# Altium footprint library HFFP10-HH.PcbLib: 1 footprints
Each footprint in its own frame and in the unit in brackets; x right, y up, seen from the top. Pads: shape width x height; smd on the part's side, far side on the other; paste and mask are expansions set on the pad; w line width, h text height; cw(c..) or ccw(c..) is an arc to the next point about the centre after c.
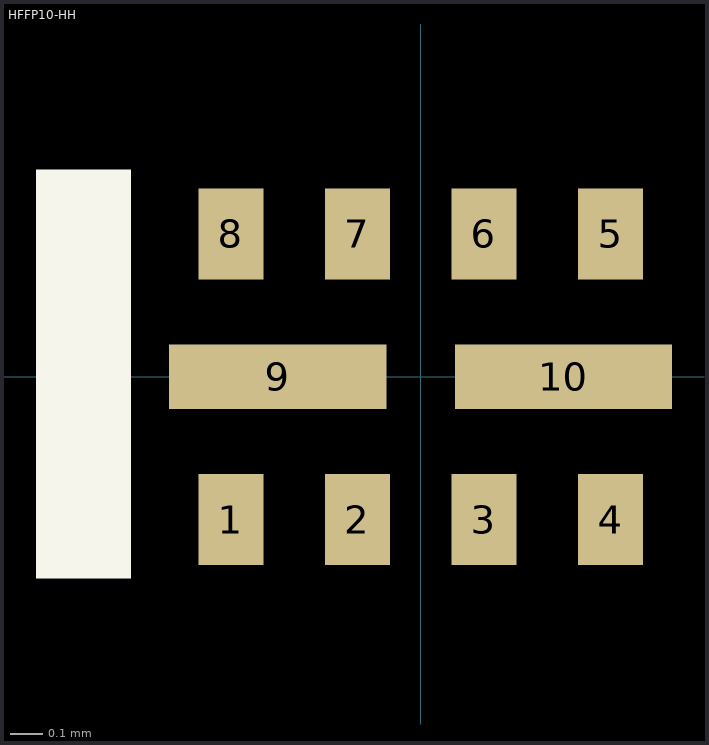
[diagram p0: the footprint, top view; thin cyan lines are the x and y axes]

## HFFP10-HH [mm] "HFFP10-HH Package)"
height 0.5
pads (10):
  rect 0.2x0.28 smd paste-1 mask+0.05: 1(-0.585,-0.44) 2(-0.195,-0.44) 3(0.195,-0.44) 4(0.585,-0.44) 5(0.585,0.44) 6(0.195,0.44) 7(-0.195,0.44) 8(-0.585,0.44)
  rect 0.67x0.2 smd paste-1 mask+0.05: 9(-0.44,0) 10(0.44,0)
Top Overlay:
  rectangle: -1.186,-0.621 -0.893,0.638
Top Paste:
  drawing of 10 lines, arcs and shapes, not listed
3D body: height 0.51, standoff 0.5, extent -0.59,-0.446 -0.49,-0.346
3D body: height 0.18, standoff 0, extent -0.75,-0.55 0.75,0.55
3D body: height 0.5, standoff 0.18, extent -0.7,-0.5 0.7,0.5